# EAGLE library part PCF2129T (library nxp)
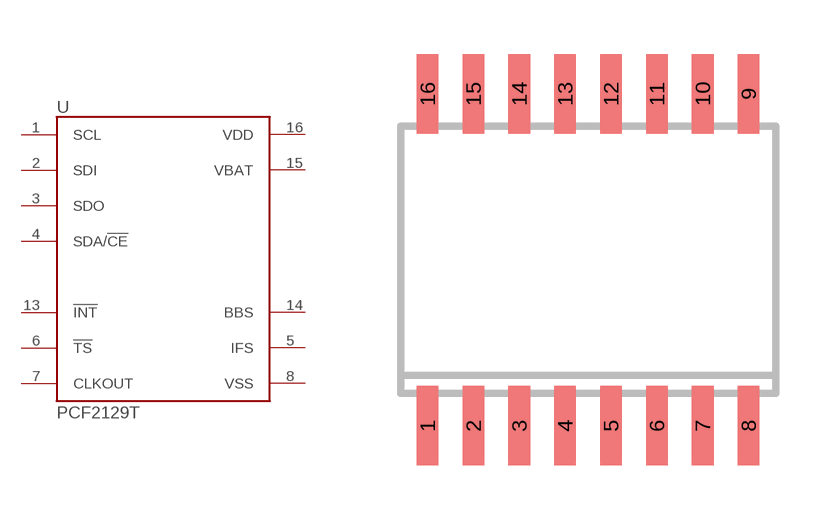
[diagram p0: symbol with the pads of SO16W; footprint SO16W]

Designator prefix -

## PCF2129T  [SO16W]
1  SCL
2  SDI
3  SDO
4  SDA/!CE
5  IFS
6  !TS
7  CLKOUT
8  VSS
13  !INT
14  BBS
15  VBAT
16  VDD

## Footprint SO16W (pad centres in mm)
SMALL OUTLINE INTEGRATED CIRCUIT wide body 7.5 mm/JEDEC MS-013AA
smd 0.6 x 2.2: 1 -4.445,-4.6; 2 -3.175,-4.6; 3 -1.905,-4.6; 4 -0.635,-4.6; 5 0.635,-4.6; 6 1.905,-4.6; 7 3.175,-4.6; 8 4.445,-4.6; 9 4.445,4.6; 10 3.175,4.6; 11 1.905,4.6; 12 0.635,4.6; 13 -0.635,4.6; 14 -1.905,4.6; 15 -3.175,4.6; 16 -4.445,4.6